# EAGLE library part 62P*X (library rotary-encoder)
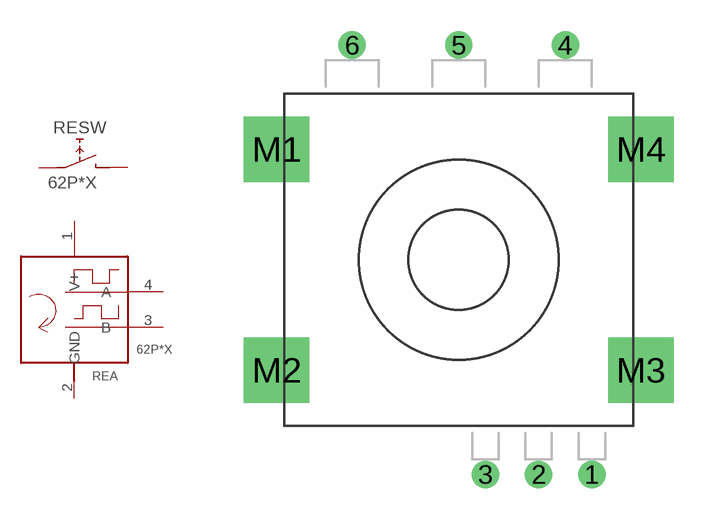
[diagram p0: symbol with the pads of 62P; footprint 62P]

Designator prefix RE; gates SW=SW A=62P22

## 62P16-HX, 62P16-LX, 62P16-NX, 62P22-HX, 62P22-LX, 62P22-NX  [62P]
1  A:V+  sup
2  A:GND  sup
3  A:B
4  A:A
5  SW:D  pas
6  SW:E  pas

## Footprint 62P (pad centres in mm)
drill 0.8 round: 1 6.35,-10.24; 2 3.81,-10.24; 3 1.27,-10.24; 4 5.08,10.24; 5 0,10.24; 6 -5.08,10.24
drill 2.1 square: M1 -8.68,5.27; M2 -8.68,-5.27; M3 8.68,-5.27; M4 8.68,5.27